# Altium footprint library LTC6811HG-1_PBF.PcbLib: 2 footprints
Each footprint in its own frame and in the unit in brackets; x right, y up, seen from the top. Pads: shape width x height; smd on the part's side, far side on the other; paste and mask are expansions set on the pad; w line width, h text height; cw(c..) or ccw(c..) is an arc to the next point about the centre after c.
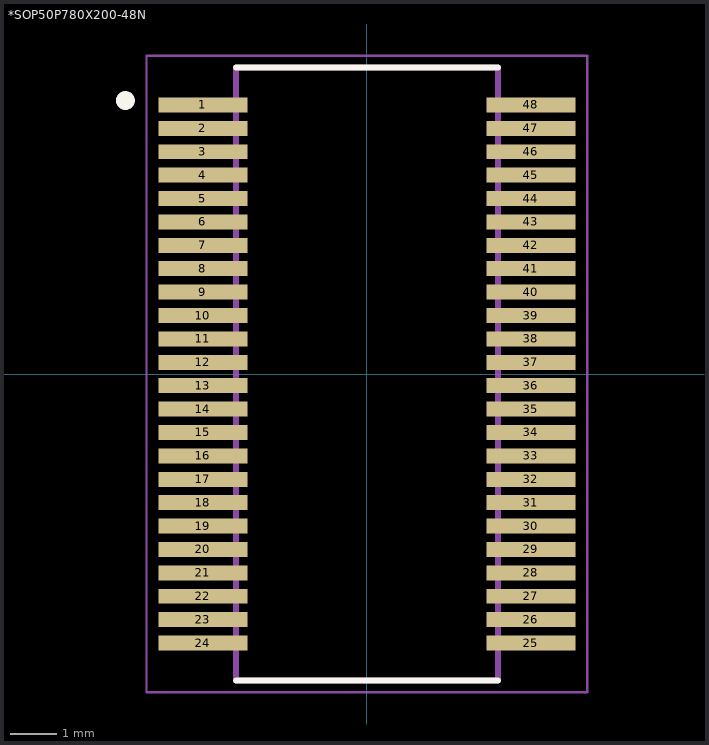
[diagram p0: the footprints below, top view; thin cyan lines are the x and y axes]

## *SOP50P780X200-48N [mm]
pads (48):
  rect 1.9x0.32 smd: 1(-3.505,5.75) 2(-3.505,5.25) 3(-3.505,4.75) 4(-3.505,4.25) 5(-3.505,3.75) 6(-3.505,3.25) 7(-3.505,2.75) 8(-3.505,2.25) 9(-3.505,1.75) 10(-3.505,1.25) 11(-3.505,0.75) 12(-3.505,0.25) 13(-3.505,-0.25) 14(-3.505,-0.75) 15(-3.505,-1.25) 16(-3.505,-1.75) 17(-3.505,-2.25) 18(-3.505,-2.75) 19(-3.505,-3.25) 20(-3.505,-3.75) 21(-3.505,-4.25) 22(-3.505,-4.75) 23(-3.505,-5.25) 24(-3.505,-5.75) 25(3.505,-5.75) 26(3.505,-5.25) 27(3.505,-4.75) 28(3.505,-4.25) 29(3.505,-3.75) 30(3.505,-3.25) 31(3.505,-2.75) 32(3.505,-2.25) 33(3.505,-1.75) 34(3.505,-1.25) 35(3.505,-0.75) 36(3.505,-0.25) 37(3.505,0.25) 38(3.505,0.75) 39(3.505,1.25) 40(3.505,1.75) 41(3.505,2.25) 42(3.505,2.75) 43(3.505,3.25) 44(3.505,3.75) 45(3.505,4.25) 46(3.505,4.75) 47(3.505,5.25) 48(3.505,5.75)
Top Overlay:
  circle w0.2: c-5.16,5.845 r0.1
  lines w0.127: -2.8,-6.55 2.8,-6.55 ; -2.8,6.55 2.8,6.55
Mechanical 4:
  circle w0.2: c-5.16,5.845 r0.1
  circle w0.2: c-5.16,5.845 r0.1
  lines w0.127: -2.8,-6.55 -2.8,6.55 ; -2.8,-6.55 2.8,-6.55 ; -2.8,-6.55 -2.8,6.55 ; -2.8,-6.55 2.8,-6.55 ; -2.8,6.55 2.8,6.55 ; -2.8,6.55 2.8,6.55 ; 2.8,-6.55 2.8,6.55 ; 2.8,-6.55 2.8,6.55
Mechanical 16:
  lines w0.05: -4.71,-6.8 -4.71,6.8 4.71,6.8 4.71,-6.8 -4.71,-6.8

## PCBComponent_1 [mm]